# EAGLE library part MSP430G2553 (library custom)
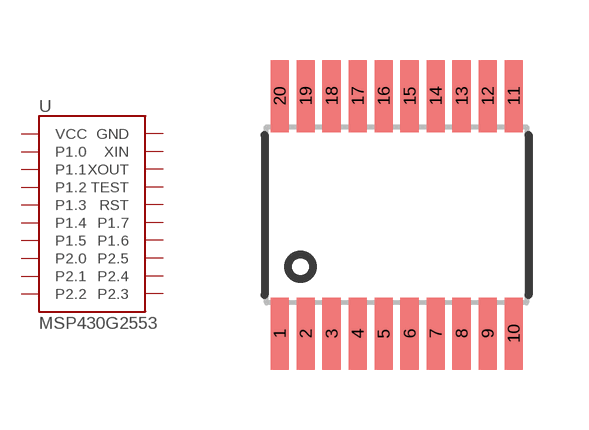
[diagram p82: symbol with the pads of 20-TSSOP; footprint 20-TSSOP]

Designator prefix U

## MSP430G2553  [20-TSSOP]
1  VCC
2  P1.0
3  P1.1
4  P1.2
5  P1.3
6  P1.4
7  P1.5
8  P2.0
9  P2.1
10  P2.2
11  P2.3
12  P2.4
13  P2.5
14  P1.6
15  P1.7
16  RST
17  TEST
18  XOUT
19  XIN
20  GND

## Footprint 20-TSSOP (pad centres in mm)
smd 0.45 x 1.8: 1 -2.925,-2.97; 2 -2.275,-2.97; 3 -1.625,-2.97; 4 -0.975,-2.97; 5 -0.325,-2.97; 6 0.325,-2.97; 7 0.975,-2.97; 8 1.625,-2.97; 9 2.275,-2.97; 10 2.925,-2.97; 11 2.925,2.97; 12 2.275,2.97; 13 1.625,2.97; 14 0.975,2.97; 15 0.325,2.97; 16 -0.325,2.97; 17 -0.975,2.97; 18 -1.625,2.97; 19 -2.275,2.97; 20 -2.925,2.97